# Altium integrated library AudioDevice.IntLib: 4 symbols
Pins are listed as number, name and electrical type; pins without a type are passive.

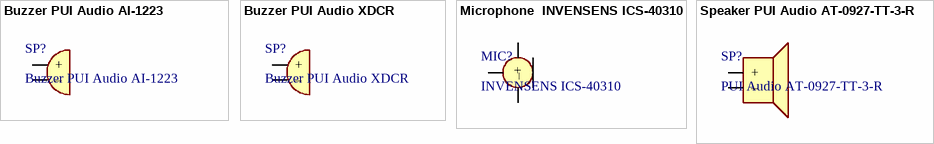
[diagram p0: symbols Buzzer PUI Audio AI-1223 to Speaker PUI Audio AT-0927-TT-3-R]

## Buzzer PUI Audio AI-1223
designator SP?
Buzzers Transducer, Externally Driven Magnetic 3V 35mA 2kHz 80dB; Value: Buzzer PUI Audio AI-1223
footprint Buzzer PUI Audio AI-1223 (Buzzer PUI Audio AI-1223 D12.0 H7.5)
pins: 1 +, 2 –

## Buzzer PUI Audio XDCR
designator SP?
Buzzers Transducer, Externally Driven Magnetic 3V 35mA 2kHz 80dB; Value: Buzzer PUI Audio XDCR
footprint Buzzer PUI Audio XDCR (Buzzer PUI Audio XDCR D12.0 H9.0)
pins: 1 +, 2 –

## Microphone  INVENSENS ICS-40310
designator MIC?, comment INVENSENS ICS-40310
Ultra-low Current, Low-Noise Microphone with Analog Output; Value: INVENSENS ICS-40310
footprint Microphone  INVENSENS ICS-40310
pins: 1 OUT, 2 –, 3 +

## Speaker PUI Audio AT-0927-TT-3-R
designator SP?, comment PUI Audio AT-0927-TT-3-R
Speaker PUI Audio AT-0927-TT-3-R; Value: PUI Audio AT-0927-TT-3-R
footprint Speaker PUI Audio AT-0927-TT-3-R (Speaker PUI Audio AT-0927-TT-3-R D9.0 H4.2)
pins: 1 +, 2 –